# Altium schematic symbol library Button_FPC.SchLib: 1 symbol
Pins are listed as number, name and electrical type; pins without a type are passive.

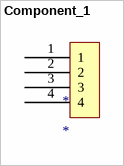
[diagram p0: symbol Component_1]

## Component_1
designator *
footprint FPC0.5-WT-4P (长：6.2mm，宽：5.2mm，高：2mm)
pins: 1, 2, 3, 4